# Altium footprint library Newport Components Footprints.PcbLib: 38 footprints (part 1 of 3)
Each footprint in its own frame and in the unit in brackets; x right, y up, seen from the top. Pads: shape width x height; smd on the part's side, far side on the other; paste and mask are expansions set on the pad; w line width, h text height; cw(c..) or ccw(c..) is an arc to the next point about the centre after c.
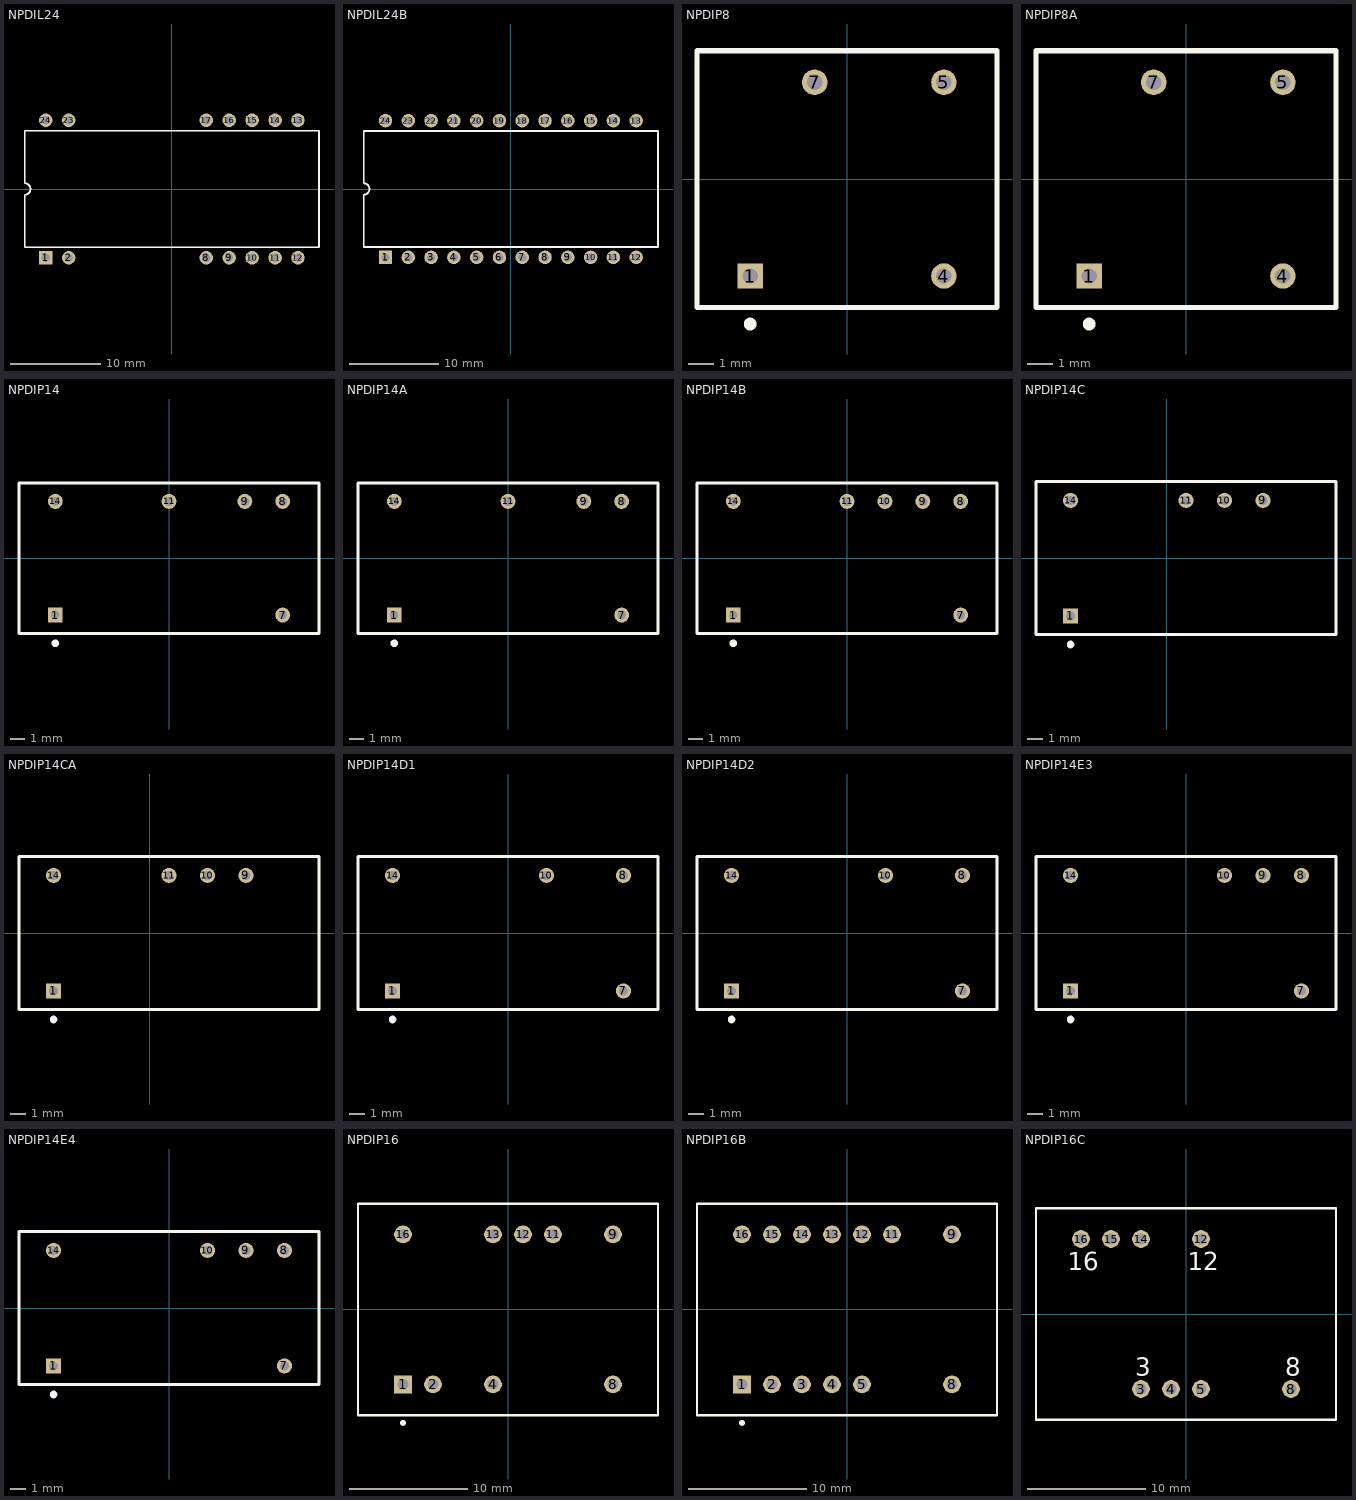
[diagram p0: the footprints below, top view; thin cyan lines are the x and y axes]

## NPDIL24 [mm] "DIP; 24 Leads (10 Absent); Row Spacing 15.24 mm; Pitch 2.54 mm"
height 9.4
pads (14):
  rect 1.5x1.5 hole 0.9: 1(-13.97,-7.62)
  round 1.5 hole 0.9: 2(-11.43,-7.62) 8(3.81,-7.62) 9(6.35,-7.62) 10(8.89,-7.62) 11(11.43,-7.62) 12(13.97,-7.62) 13(13.97,7.62) 14(11.43,7.62) 15(8.89,7.62) 16(6.35,7.62) 17(3.81,7.62) 23(-11.43,7.62) 24(-13.97,7.62)
Top Overlay:
  lines w0.2: -16.3,-6.45 -16.3,-0.635 ccw(c-16.3,0) -16.3,0.635 -16.3,6.45 16.3,6.45 16.3,-6.45 -16.3,-6.45

## NPDIL24B [mm] "DIP; 24 Leads; Row Spacing 15.24 mm; Pitch 2.54 mm"
height 7.6
pads (24):
  rect 1.5x1.5 hole 0.9: 1(-13.97,-7.62)
  round 1.5 hole 0.9: 2(-11.43,-7.62) 3(-8.89,-7.62) 4(-6.35,-7.62) 5(-3.81,-7.62) 6(-1.27,-7.62) 7(1.27,-7.62) 8(3.81,-7.62) 9(6.35,-7.62) 10(8.89,-7.62) 11(11.43,-7.62) 12(13.97,-7.62) 13(13.97,7.62) 14(11.43,7.62) 15(8.89,7.62) 16(6.35,7.62) 17(3.81,7.62) 18(1.27,7.62) 19(-1.27,7.62) 20(-3.81,7.62) 21(-6.35,7.62) 22(-8.89,7.62) 23(-11.43,7.62) 24(-13.97,7.62)
Top Overlay:
  lines w0.2: -16.4,-6.45 -16.4,-0.635 ccw(c-16.4,0) -16.4,0.635 -16.4,6.45 16.4,6.45 16.4,-6.45 -16.4,-6.45

## NPDIP8 [mm] "DIP; 8 Rectangular pins (4 Absent); Row Space 7.62 mm; Pitch 2.54 mm"
height 6.8
pads (4):
  rect 1x1 hole 0.6: 1(-3.81,-3.81)
  round 1 hole 0.6: 4(3.81,-3.81) 5(3.81,3.81) 7(-1.27,3.81)
Top Overlay:
  circle w0.25: c-3.81,-5.7 r0.125
  lines w0.2: -5.9,-5.05 -5.9,-0.635 -5.9,5.05 5.9,5.05 5.9,-5.05 -5.9,-5.05

## NPDIP8A [mm] "DIP; 8 Rectangular pins (4 Absent); Row Space 7.62 mm; Pitch 2.54 mm"
height 7.7
pads (4):
  rect 1x1 hole 0.6: 1(-3.81,-3.81)
  round 1 hole 0.6: 4(3.81,-3.81) 5(3.81,3.81) 7(-1.27,3.81)
Top Overlay:
  circle w0.25: c-3.81,-5.7 r0.125
  lines w0.2: -5.9,-5.05 5.9,-5.05 5.9,5.05 -5.9,5.05 -5.9,-0.635 -5.9,-5.05

## NPDIP14 [mm] "DIP; 14 Rectangular pins (8 Absent); Row Space 7.62 mm; Pitch 2.54 mm"
height 6.8
pads (6):
  rect 1x1 hole 0.6: 1(-7.62,-3.81)
  round 1 hole 0.6: 7(7.62,-3.81) 8(7.62,3.81) 9(5.08,3.81) 11(0,3.81) 14(-7.62,3.81)
Top Overlay:
  circle w0.25: c-7.62,-5.7 r0.125
  lines w0.2: -10.05,-5.05 -10.05,-0.635 -10.05,5.05 10.05,5.05 10.05,-5.05 -10.05,-5.05

## NPDIP14A [mm] "DIP; 14 Rectangular pins (8 Absent); Row Space 7.62 mm; Pitch 2.54 mm"
height 7.7
pads (6):
  rect 1x1 hole 0.6: 1(-7.62,-3.81)
  round 1 hole 0.6: 7(7.62,-3.81) 8(7.62,3.81) 9(5.08,3.81) 11(0,3.81) 14(-7.62,3.81)
Top Overlay:
  circle w0.25: c-7.62,-5.7 r0.125
  lines w0.2: -10.05,-5.05 -10.05,-0.635 -10.05,5.05 10.05,5.05 10.05,-5.05 -10.05,-5.05

## NPDIP14B [mm] "DIP; 14 Rectangular pins (7 Absent); Row Space 7.62 mm; Pitch 2.54 mm"
height 6.8
pads (7):
  rect 1x1 hole 0.6: 1(-7.62,-3.81)
  round 1 hole 0.6: 7(7.62,-3.81) 8(7.62,3.81) 9(5.08,3.81) 10(2.54,3.81) 11(0,3.81) 14(-7.62,3.81)
Top Overlay:
  circle w0.25: c-7.62,-5.7 r0.125
  lines w0.2: -10.05,-5.05 -10.05,-0.635 -10.05,5.05 10.05,5.05 10.05,-5.05 -10.05,-5.05

## NPDIP14C [mm] "DIP; 14 Rectangular pins (9 Absent); Row Space 7.62 mm; Pitch 2.54 mm"
height 6.8
pads (5):
  rect 1x1 hole 0.6: 1(-6.35,-3.81)
  round 1 hole 0.6: 9(6.35,3.81) 10(3.81,3.81) 11(1.27,3.81) 14(-6.35,3.81)
Top Overlay:
  circle w0.25: c-6.35,-5.7 r0.125
  lines w0.2: -8.63,-5.05 -8.63,-0.635 -8.63,5.05 11.17,5.05 11.17,-5.05 -8.63,-5.05

## NPDIP14CA [mm] "DIP; 14 Rectangular pins (9 Absent); Row Space 7.62 mm; Pitch 2.54 mm"
height 7.7
pads (5):
  rect 1x1 hole 0.6: 1(-6.35,-3.81)
  round 1 hole 0.6: 9(6.35,3.81) 10(3.81,3.81) 11(1.27,3.81) 14(-6.35,3.81)
Top Overlay:
  circle w0.25: c-6.35,-5.7 r0.125
  lines w0.2: -8.63,-5.05 -8.63,-0.635 -8.63,5.05 11.17,5.05 11.17,-5.05 -8.63,-5.05

## NPDIP14D1 [mm] "DIP; 14 Rectangular pins (9 Absent); Row Space 7.62 mm; Pitch 2.54 mm"
height 6.8
pads (5):
  rect 1x1 hole 0.6: 1(-7.62,-3.81)
  round 1 hole 0.6: 7(7.62,-3.81) 8(7.62,3.81) 10(2.54,3.81) 14(-7.62,3.81)
Top Overlay:
  circle w0.25: c-7.62,-5.7 r0.125
  lines w0.2: -9.9,-5.05 -9.9,-0.635 -9.9,5.05 9.9,5.05 9.9,-5.05 -9.9,-5.05

## NPDIP14D2 [mm] "DIP; 14 Rectangular pins (9 Absent); Row Space 7.62 mm; Pitch 2.54 mm"
height 7.7
pads (5):
  rect 1x1 hole 0.6: 1(-7.62,-3.81)
  round 1 hole 0.6: 7(7.62,-3.81) 8(7.62,3.81) 10(2.54,3.81) 14(-7.62,3.81)
Top Overlay:
  circle w0.25: c-7.62,-5.7 r0.125
  lines w0.2: -9.9,-5.05 -9.9,-0.635 -9.9,5.05 9.9,5.05 9.9,-5.05 -9.9,-5.05

## NPDIP14E3 [mm] "DIP; 14 Rectangular pins (8 Absent); Row Space 7.62 mm; Pitch 2.54 mm"
height 6.8
pads (6):
  rect 1x1 hole 0.6: 1(-7.62,-3.81)
  round 1 hole 0.6: 7(7.62,-3.81) 8(7.62,3.81) 9(5.08,3.81) 10(2.54,3.81) 14(-7.62,3.81)
Top Overlay:
  circle w0.25: c-7.62,-5.7 r0.125
  lines w0.2: -9.9,-5.05 9.9,-5.05 9.9,5.05 -9.9,5.05 -9.9,-0.635 -9.9,-5.05

## NPDIP14E4 [mm] "DIP; 14 Rectangular pins (8 Absent); Row Space 7.62 mm; Pitch 2.54 mm"
height 7.7
pads (6):
  rect 1x1 hole 0.6: 1(-7.62,-3.81)
  round 1 hole 0.6: 7(7.62,-3.81) 8(7.62,3.81) 9(5.08,3.81) 10(2.54,3.81) 14(-7.62,3.81)
Top Overlay:
  circle w0.25: c-7.62,-5.7 r0.125
  lines w0.2: -9.9,-5.05 9.9,-5.05 9.9,5.05 -9.9,5.05 -9.9,-0.635 -9.9,-5.05

## NPDIP16 [mm] "DIP; 16 Round Pins (7 Absent); Row Space 12.7 mm; Pitch 2.54 mm"
height 9.25
pads (9):
  rect 1.5x1.5 hole 0.9: 1(-8.89,-6.35)
  round 1.5 hole 0.9: 2(-6.35,-6.35) 4(-1.27,-6.35) 8(8.89,-6.35) 9(8.89,6.35) 11(3.81,6.35) 12(1.27,6.35) 13(-1.27,6.35) 16(-8.89,6.35)
Top Overlay:
  circle w0.25: c-8.89,-9.6 r0.125
  lines w0.2: -12.7,-8.95 12.7,-8.95 12.7,8.95 -12.7,8.95 -12.7,-0.635 -12.7,-8.95

## NPDIP16B [mm] "DIP; 16 Round Pins (3 Absent); Row Space 12.7 mm; Pitch 2.54 mm"
height 9.25
pads (13):
  rect 1.5x1.5 hole 0.9: 1(-8.89,-6.35)
  round 1.5 hole 0.9: 2(-6.35,-6.35) 3(-3.81,-6.35) 4(-1.27,-6.35) 5(1.27,-6.35) 8(8.89,-6.35) 9(8.89,6.35) 11(3.81,6.35) 12(1.27,6.35) 13(-1.27,6.35) 14(-3.81,6.35) 15(-6.35,6.35) 16(-8.89,6.35)
Top Overlay:
  circle w0.25: c-8.89,-9.6 r0.125
  lines w0.2: -12.7,-8.95 -12.7,-0.635 -12.7,8.95 12.7,8.95 12.7,-8.95 -12.7,-8.95

## NPDIP16C [mm] "DIP; 16 Round Pins (8 Absent); Row Space 12.7 mm; Pitch 2.54 mm"
height 9.25
pads (8):
  round 1.5 hole 0.9: 3(-3.81,-6.35) 4(-1.27,-6.35) 5(1.27,-6.35) 8(8.89,-6.35) 12(1.27,6.35) 14(-3.81,6.35) 15(-6.35,6.35) 16(-8.89,6.35)
Top Overlay:
  lines w0.2: -12.7,-8.95 -12.7,-0.635 -12.7,8.95 12.7,8.95 12.7,-8.95 -12.7,-8.95
  text "12" at 0.145,3.725 h1.5
  text "8" at 8.39,-5.225 h1.5
  text "3" at -4.31,-5.225 h1.5
  text "16" at -10.015,3.725 h1.5